# Altium integrated library Altium_WCAP-CSGP (rev22f).IntLib: 999 symbols (part 14 of 21)
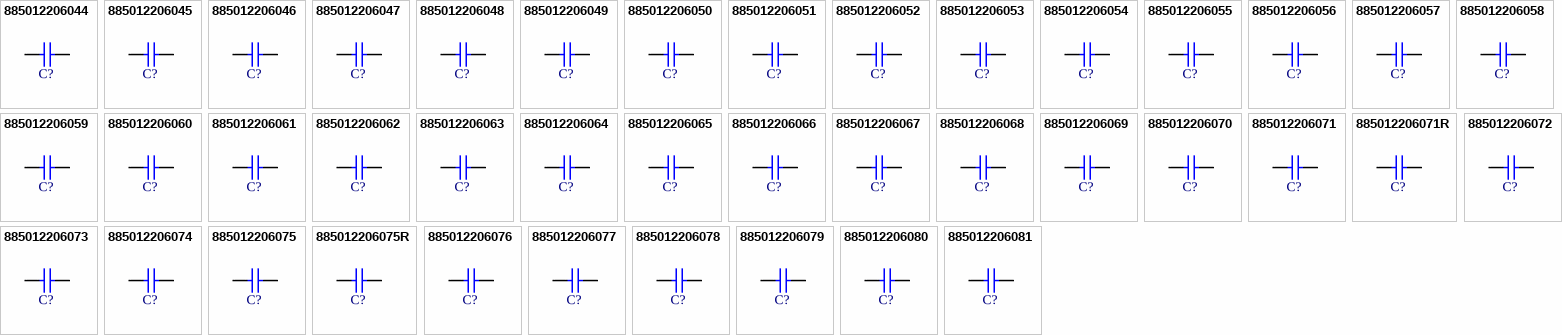
[diagram p37: symbols 885012206044 to 885012206081]

## 885012206075R
designator C?, comment 470nF  (value not drawn)
WCAP-CSGP Multilayer Ceramic Chip Capacitor, General Purpose, size 0603, X7R Class II, 470nF, 25VDC; Manufacturer Part Number: 885012206075R; Manufacturer: Wurth Elektronik; Case/Size Code: 0603; Capacitance Tolerance: +/-10%; Dissipation Factor: 10%; Insulation Resistance: 1.1GΩ; Rated Voltage (DC): 25V; Technical Reference: X7R0603474K025DFCT20000; Category: Multilayer Ceramic Chip Capacitors; Match Code: WCAP-CSGP; ComponentLink1Description: Website Link; ComponentLink1URL: https://www.we-online.com/redexpert/article/885012206075R?ad; ComponentLink2Description: Datasheet Link; ComponentLink2URL: https://www.we-online.com/redexpert/spec/885012206075R?ad; Mount: Surface Mount; Operating Temperature Max: 125°C; Operating Temperature Min: -55°C; Packaging: Tape and Reel; Length: 1.6mm; Width: 0.8mm; Height: 0.8mm; Capacitance: 470nF; Ceramic Type: X7R Class II
footprint WCAP-CSGP_0603_L1.6W0.8H0.8_Reflow
footprint WCAP-CSGP_0603_L1.6W0.8H0.8_Wave
simulation model 0603_885012206075R_470nF
pins: 1, 2

## 885012206076
designator C?, comment 1µF  (value not drawn)
WCAP-CSGP Multilayer Ceramic Chip Capacitor, General Purpose, size 0603, X7R, 1µF, 25VDC; Manufacturer Part Number: 885012206076; Manufacturer: Wurth Elektronik; Case/Size Code: 0603; Capacitance Tolerance: +/-10%; Dissipation Factor: 10%; Insulation Resistance: 0.5GΩ; Rated Voltage (DC): 25V; Technical Reference: X7R0603105K025DFCT10000; Category: Multilayer Ceramic Chip Capacitors; Match Code: WCAP-CSGP; ComponentLink1Description: Website Link; ComponentLink1URL: https://www.we-online.com/redexpert/article/885012206076?ad; ComponentLink2Description: Datasheet Link; ComponentLink2URL: https://www.we-online.com/redexpert/spec/885012206076?ad; Mount: Surface Mount; Operating Temperature Max: 125°C; Operating Temperature Min: -55°C; Packaging: Tape and Reel; Length: 1.6mm; Width: 0.8mm; Height: 0.8mm; Capacitance: 1µF; Ceramic Type: X7R
footprint WCAP-CSGP_0603_L1.6W0.8H0.8_Reflow
footprint WCAP-CSGP_0603_L1.6W0.8H0.8_Wave
simulation model 0603_885012206076_1uF
pins: 1, 2

## 885012206077
designator C?, comment 100pF  (value not drawn)
WCAP-CSGP Multilayer Ceramic Chip Capacitor, General Purpose, size 0603, X7R, 100pF, 50VDC; Manufacturer Part Number: 885012206077; Manufacturer: Wurth Elektronik; Case/Size Code: 0603; Capacitance Tolerance: +/-10%; Dissipation Factor: 2.5%; Insulation Resistance: 10GΩ; Rated Voltage (DC): 50V; Technical Reference: X7R0603101K050DFCT10000; Category: Multilayer Ceramic Chip Capacitors; Match Code: WCAP-CSGP; ComponentLink1Description: Website Link; ComponentLink1URL: https://www.we-online.com/redexpert/article/885012206077?ad; ComponentLink2Description: Datasheet Link; ComponentLink2URL: https://www.we-online.com/redexpert/spec/885012206077?ad; Mount: Surface Mount; Operating Temperature Max: 125°C; Operating Temperature Min: -55°C; Packaging: Tape and Reel; Length: 1.6mm; Width: 0.8mm; Height: 0.8mm; Capacitance: 100pF; Ceramic Type: X7R
footprint WCAP-CSGP_0603_L1.6W0.8H0.8_Reflow
footprint WCAP-CSGP_0603_L1.6W0.8H0.8_Wave
simulation model 0603_885012206077_100pF
pins: 1, 2

## 885012206078
designator C?, comment 150pF  (value not drawn)
WCAP-CSGP Multilayer Ceramic Chip Capacitor, General Purpose, size 0603, X7R, 150pF, 50VDC; Manufacturer Part Number: 885012206078; Manufacturer: Wurth Elektronik; Case/Size Code: 0603; Capacitance Tolerance: +/-10%; Dissipation Factor: 2.5%; Insulation Resistance: 10GΩ; Rated Voltage (DC): 50V; Technical Reference: X7R0603151K050DFCT10000; Category: Multilayer Ceramic Chip Capacitors; Match Code: WCAP-CSGP; ComponentLink1Description: Website Link; ComponentLink1URL: https://www.we-online.com/redexpert/article/885012206078?ad; ComponentLink2Description: Datasheet Link; ComponentLink2URL: https://www.we-online.com/redexpert/spec/885012206078?ad; Mount: Surface Mount; Operating Temperature Max: 125°C; Operating Temperature Min: -55°C; Packaging: Tape and Reel; Length: 1.6mm; Width: 0.8mm; Height: 0.8mm; Capacitance: 150pF; Ceramic Type: X7R
footprint WCAP-CSGP_0603_L1.6W0.8H0.8_Reflow
footprint WCAP-CSGP_0603_L1.6W0.8H0.8_Wave
simulation model 0603_885012206078_150pF
pins: 1, 2

## 885012206079
designator C?, comment 220pF  (value not drawn)
WCAP-CSGP Multilayer Ceramic Chip Capacitor, General Purpose, size 0603, X7R, 220pF, 50VDC; Manufacturer Part Number: 885012206079; Manufacturer: Wurth Elektronik; Case/Size Code: 0603; Capacitance Tolerance: +/-10%; Dissipation Factor: 2.5%; Insulation Resistance: 10GΩ; Rated Voltage (DC): 50V; Technical Reference: X7R0603221K050DFCT10000; Category: Multilayer Ceramic Chip Capacitors; Match Code: WCAP-CSGP; ComponentLink1Description: Website Link; ComponentLink1URL: https://www.we-online.com/redexpert/article/885012206079?ad; ComponentLink2Description: Datasheet Link; ComponentLink2URL: https://www.we-online.com/redexpert/spec/885012206079?ad; Mount: Surface Mount; Operating Temperature Max: 125°C; Operating Temperature Min: -55°C; Packaging: Tape and Reel; Length: 1.6mm; Width: 0.8mm; Height: 0.8mm; Capacitance: 220pF; Ceramic Type: X7R
footprint WCAP-CSGP_0603_L1.6W0.8H0.8_Reflow
footprint WCAP-CSGP_0603_L1.6W0.8H0.8_Wave
simulation model 0603_885012206079_220pF
pins: 1, 2

## 885012206080
designator C?, comment 330pF  (value not drawn)
WCAP-CSGP Multilayer Ceramic Chip Capacitor, General Purpose, size 0603, X7R, 330pF, 50VDC; Manufacturer Part Number: 885012206080; Manufacturer: Wurth Elektronik; Case/Size Code: 0603; Capacitance Tolerance: +/-10%; Dissipation Factor: 2.5%; Insulation Resistance: 10GΩ; Rated Voltage (DC): 50V; Technical Reference: X7R0603331K050DFCT10000; Category: Multilayer Ceramic Chip Capacitors; Match Code: WCAP-CSGP; ComponentLink1Description: Website Link; ComponentLink1URL: https://www.we-online.com/redexpert/article/885012206080?ad; ComponentLink2Description: Datasheet Link; ComponentLink2URL: https://www.we-online.com/redexpert/spec/885012206080?ad; Mount: Surface Mount; Operating Temperature Max: 125°C; Operating Temperature Min: -55°C; Packaging: Tape and Reel; Length: 1.6mm; Width: 0.8mm; Height: 0.8mm; Capacitance: 330pF; Ceramic Type: X7R
footprint WCAP-CSGP_0603_L1.6W0.8H0.8_Reflow
footprint WCAP-CSGP_0603_L1.6W0.8H0.8_Wave
simulation model 0603_885012206080_330pF
pins: 1, 2

## 885012206081
designator C?, comment 470pF  (value not drawn)
WCAP-CSGP Multilayer Ceramic Chip Capacitor, General Purpose, size 0603, X7R, 470pF, 50VDC; Manufacturer Part Number: 885012206081; Manufacturer: Wurth Elektronik; Case/Size Code: 0603; Capacitance Tolerance: +/-10%; Dissipation Factor: 2.5%; Insulation Resistance: 10GΩ; Rated Voltage (DC): 50V; Technical Reference: X7R0603471K050DFCT10000; Category: Multilayer Ceramic Chip Capacitors; Match Code: WCAP-CSGP; ComponentLink1Description: Website Link; ComponentLink1URL: https://www.we-online.com/redexpert/article/885012206081?ad; ComponentLink2Description: Datasheet Link; ComponentLink2URL: https://www.we-online.com/redexpert/spec/885012206081?ad; Mount: Surface Mount; Operating Temperature Max: 125°C; Operating Temperature Min: -55°C; Packaging: Tape and Reel; Length: 1.6mm; Width: 0.8mm; Height: 0.8mm; Capacitance: 470pF; Ceramic Type: X7R
footprint WCAP-CSGP_0603_L1.6W0.8H0.8_Reflow
footprint WCAP-CSGP_0603_L1.6W0.8H0.8_Wave
simulation model 0603_885012206081_470pF
pins: 1, 2

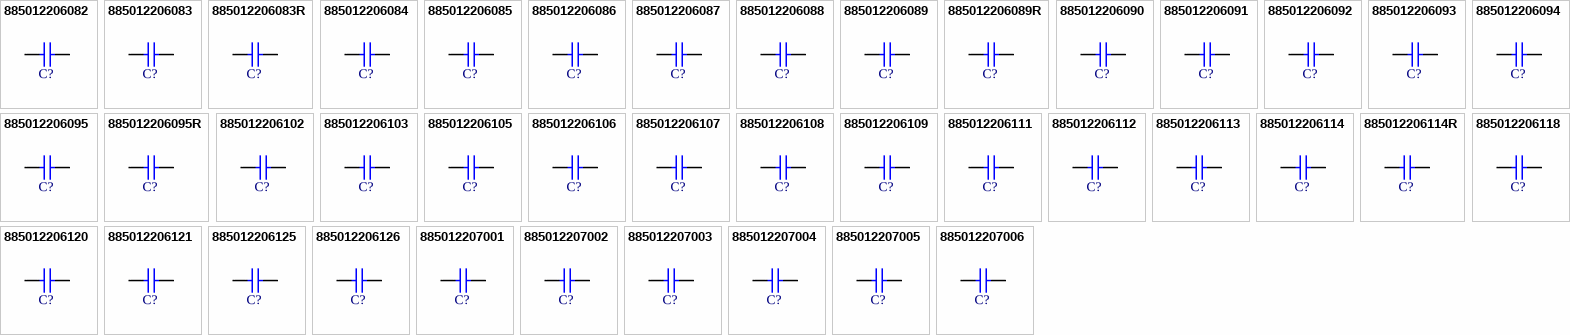
[diagram p16: symbols 885012206082 to 885012207006]

## 885012206082
designator C?, comment 680pF  (value not drawn)
WCAP-CSGP Multilayer Ceramic Chip Capacitor, General Purpose, size 0603, X7R, 680pF, 50VDC; Manufacturer Part Number: 885012206082; Manufacturer: Wurth Elektronik; Case/Size Code: 0603; Capacitance Tolerance: +/-10%; Dissipation Factor: 2.5%; Insulation Resistance: 10GΩ; Rated Voltage (DC): 50V; Technical Reference: X7R0603681K050DFCT10000; Category: Multilayer Ceramic Chip Capacitors; Match Code: WCAP-CSGP; ComponentLink1Description: Website Link; ComponentLink1URL: https://www.we-online.com/redexpert/article/885012206082?ad; ComponentLink2Description: Datasheet Link; ComponentLink2URL: https://www.we-online.com/redexpert/spec/885012206082?ad; Mount: Surface Mount; Operating Temperature Max: 125°C; Operating Temperature Min: -55°C; Packaging: Tape and Reel; Length: 1.6mm; Width: 0.8mm; Height: 0.8mm; Capacitance: 680pF; Ceramic Type: X7R
footprint WCAP-CSGP_0603_L1.6W0.8H0.8_Reflow
footprint WCAP-CSGP_0603_L1.6W0.8H0.8_Wave
simulation model 0603_885012206082_680pF
pins: 1, 2

## 885012206083
designator C?, comment 1nF  (value not drawn)
WCAP-CSGP Multilayer Ceramic Chip Capacitor, General Purpose, size 0603, X7R, 1nF, 50VDC; Manufacturer Part Number: 885012206083; Manufacturer: Wurth Elektronik; Case/Size Code: 0603; Capacitance Tolerance: +/-10%; Dissipation Factor: 2.5%; Insulation Resistance: 10GΩ; Rated Voltage (DC): 50V; Technical Reference: X7R0603102K050DFCT10000; Category: Multilayer Ceramic Chip Capacitors; Match Code: WCAP-CSGP; ComponentLink1Description: Website Link; ComponentLink1URL: https://www.we-online.com/redexpert/article/885012206083?ad; ComponentLink2Description: Datasheet Link; ComponentLink2URL: https://www.we-online.com/redexpert/spec/885012206083?ad; Mount: Surface Mount; Operating Temperature Max: 125°C; Operating Temperature Min: -55°C; Packaging: Tape and Reel; Length: 1.6mm; Width: 0.8mm; Height: 0.8mm; Capacitance: 1nF; Ceramic Type: X7R
footprint WCAP-CSGP_0603_L1.6W0.8H0.8_Reflow
footprint WCAP-CSGP_0603_L1.6W0.8H0.8_Wave
simulation model 0603_885012206083_1nF
pins: 1, 2

## 885012206083R
designator C?, comment 1nF  (value not drawn)
WCAP-CSGP Multilayer Ceramic Chip Capacitor, General Purpose, size 0603, X7R, 1nF, 50VDC; Manufacturer Part Number: 885012206083R; Manufacturer: Wurth Elektronik; Case/Size Code: 0603; Capacitance Tolerance: +/-10%; Dissipation Factor: 2.5%; Insulation Resistance: 10GΩ; Rated Voltage (DC): 50V; Technical Reference: X7R0603102K050DFCT20000; Category: Multilayer Ceramic Chip Capacitors; Match Code: WCAP-CSGP; ComponentLink1Description: Website Link; ComponentLink1URL: https://www.we-online.com/redexpert/article/885012206083R?ad; ComponentLink2Description: Datasheet Link; ComponentLink2URL: https://www.we-online.com/redexpert/spec/885012206083R?ad; Mount: Surface Mount; Operating Temperature Max: 125°C; Operating Temperature Min: -55°C; Packaging: Tape and Reel; Length: 1.6mm; Width: 0.8mm; Height: 0.8mm; Capacitance: 1nF; Ceramic Type: X7R
footprint WCAP-CSGP_0603_L1.6W0.8H0.8_Reflow
footprint WCAP-CSGP_0603_L1.6W0.8H0.8_Wave
simulation model 0603_885012206083R_1nF
pins: 1, 2

## 885012206084
designator C?, comment 1.5nF  (value not drawn)
WCAP-CSGP Multilayer Ceramic Chip Capacitor, General Purpose, size 0603, X7R, 1.5nF, 50VDC; Manufacturer Part Number: 885012206084; Manufacturer: Wurth Elektronik; Case/Size Code: 0603; Capacitance Tolerance: +/-10%; Dissipation Factor: 2.5%; Insulation Resistance: 10GΩ; Rated Voltage (DC): 50V; Technical Reference: X7R0603152K050DFCT10000; Category: Multilayer Ceramic Chip Capacitors; Match Code: WCAP-CSGP; ComponentLink1Description: Website Link; ComponentLink1URL: https://www.we-online.com/redexpert/article/885012206084?ad; ComponentLink2Description: Datasheet Link; ComponentLink2URL: https://www.we-online.com/redexpert/spec/885012206084?ad; Mount: Surface Mount; Operating Temperature Max: 125°C; Operating Temperature Min: -55°C; Packaging: Tape and Reel; Length: 1.6mm; Width: 0.8mm; Height: 0.8mm; Capacitance: 1.5nF; Ceramic Type: X7R
footprint WCAP-CSGP_0603_L1.6W0.8H0.8_Reflow
footprint WCAP-CSGP_0603_L1.6W0.8H0.8_Wave
simulation model 0603_885012206084_1.5nF
pins: 1, 2

## 885012206085
designator C?, comment 2.2nF  (value not drawn)
WCAP-CSGP Multilayer Ceramic Chip Capacitor, General Purpose, size 0603, X7R, 2.2nF, 50VDC; Manufacturer Part Number: 885012206085; Manufacturer: Wurth Elektronik; Case/Size Code: 0603; Capacitance Tolerance: +/-10%; Dissipation Factor: 2.5%; Insulation Resistance: 10GΩ; Rated Voltage (DC): 50V; Technical Reference: X7R0603222K050DFCT10000; Category: Multilayer Ceramic Chip Capacitors; Match Code: WCAP-CSGP; ComponentLink1Description: Website Link; ComponentLink1URL: https://www.we-online.com/redexpert/article/885012206085?ad; ComponentLink2Description: Datasheet Link; ComponentLink2URL: https://www.we-online.com/redexpert/spec/885012206085?ad; Mount: Surface Mount; Operating Temperature Max: 125°C; Operating Temperature Min: -55°C; Packaging: Tape and Reel; Length: 1.6mm; Width: 0.8mm; Height: 0.8mm; Capacitance: 2.2nF; Ceramic Type: X7R
footprint WCAP-CSGP_0603_L1.6W0.8H0.8_Reflow
footprint WCAP-CSGP_0603_L1.6W0.8H0.8_Wave
simulation model 0603_885012206085_2.2nF
pins: 1, 2

## 885012206086
designator C?, comment 3.3nF  (value not drawn)
WCAP-CSGP Multilayer Ceramic Chip Capacitor, General Purpose, size 0603, X7R, 3.3nF, 50VDC; Manufacturer Part Number: 885012206086; Manufacturer: Wurth Elektronik; Case/Size Code: 0603; Capacitance Tolerance: +/-10%; Dissipation Factor: 2.5%; Insulation Resistance: 10GΩ; Rated Voltage (DC): 50V; Technical Reference: X7R0603332K050DFCT10000; Category: Multilayer Ceramic Chip Capacitors; Match Code: WCAP-CSGP; ComponentLink1Description: Website Link; ComponentLink1URL: https://www.we-online.com/redexpert/article/885012206086?ad; ComponentLink2Description: Datasheet Link; ComponentLink2URL: https://www.we-online.com/redexpert/spec/885012206086?ad; Mount: Surface Mount; Operating Temperature Max: 125°C; Operating Temperature Min: -55°C; Packaging: Tape and Reel; Length: 1.6mm; Width: 0.8mm; Height: 0.8mm; Capacitance: 3.3nF; Ceramic Type: X7R
footprint WCAP-CSGP_0603_L1.6W0.8H0.8_Reflow
footprint WCAP-CSGP_0603_L1.6W0.8H0.8_Wave
simulation model 0603_885012206086_3.3nF
pins: 1, 2

## 885012206087
designator C?, comment 4.7nF  (value not drawn)
WCAP-CSGP Multilayer Ceramic Chip Capacitor, General Purpose, size 0603, X7R, 4.7nF, 50VDC; Manufacturer Part Number: 885012206087; Manufacturer: Wurth Elektronik; Case/Size Code: 0603; Capacitance Tolerance: +/-10%; Dissipation Factor: 2.5%; Insulation Resistance: 10GΩ; Rated Voltage (DC): 50V; Technical Reference: X7R0603472K050DFCT10000; Category: Multilayer Ceramic Chip Capacitors; Match Code: WCAP-CSGP; ComponentLink1Description: Website Link; ComponentLink1URL: https://www.we-online.com/redexpert/article/885012206087?ad; ComponentLink2Description: Datasheet Link; ComponentLink2URL: https://www.we-online.com/redexpert/spec/885012206087?ad; Mount: Surface Mount; Operating Temperature Max: 125°C; Operating Temperature Min: -55°C; Packaging: Tape and Reel; Length: 1.6mm; Width: 0.8mm; Height: 0.8mm; Capacitance: 4.7nF; Ceramic Type: X7R
footprint WCAP-CSGP_0603_L1.6W0.8H0.8_Reflow
footprint WCAP-CSGP_0603_L1.6W0.8H0.8_Wave
simulation model 0603_885012206087_4.7nF
pins: 1, 2

## 885012206088
designator C?, comment 6.8nF  (value not drawn)
WCAP-CSGP Multilayer Ceramic Chip Capacitor, General Purpose, size 0603, X7R, 6.8nF, 50VDC; Manufacturer Part Number: 885012206088; Manufacturer: Wurth Elektronik; Case/Size Code: 0603; Capacitance Tolerance: +/-10%; Dissipation Factor: 2.5%; Insulation Resistance: 10GΩ; Rated Voltage (DC): 50V; Technical Reference: X7R0603682K050DFCT10000; Category: Multilayer Ceramic Chip Capacitors; Match Code: WCAP-CSGP; ComponentLink1Description: Website Link; ComponentLink1URL: https://www.we-online.com/redexpert/article/885012206088?ad; ComponentLink2Description: Datasheet Link; ComponentLink2URL: https://www.we-online.com/redexpert/spec/885012206088?ad; Mount: Surface Mount; Operating Temperature Max: 125°C; Operating Temperature Min: -55°C; Packaging: Tape and Reel; Length: 1.6mm; Width: 0.8mm; Height: 0.8mm; Capacitance: 6.8nF; Ceramic Type: X7R
footprint WCAP-CSGP_0603_L1.6W0.8H0.8_Reflow
footprint WCAP-CSGP_0603_L1.6W0.8H0.8_Wave
simulation model 0603_885012206088_6.8nF
pins: 1, 2

## 885012206089
designator C?, comment 10nF  (value not drawn)
WCAP-CSGP Multilayer Ceramic Chip Capacitor, General Purpose, size 0603, X7R, 10nF, 50VDC; Manufacturer Part Number: 885012206089; Manufacturer: Wurth Elektronik; Case/Size Code: 0603; Capacitance Tolerance: +/-10%; Dissipation Factor: 2.5%; Insulation Resistance: 10GΩ; Rated Voltage (DC): 50V; Technical Reference: X7R0603103K050DFCT10000; Category: Multilayer Ceramic Chip Capacitors; Match Code: WCAP-CSGP; ComponentLink1Description: Website Link; ComponentLink1URL: https://www.we-online.com/redexpert/article/885012206089?ad; ComponentLink2Description: Datasheet Link; ComponentLink2URL: https://www.we-online.com/redexpert/spec/885012206089?ad; Mount: Surface Mount; Operating Temperature Max: 125°C; Operating Temperature Min: -55°C; Packaging: Tape and Reel; Length: 1.6mm; Width: 0.8mm; Height: 0.8mm; Capacitance: 10nF; Ceramic Type: X7R
footprint WCAP-CSGP_0603_L1.6W0.8H0.8_Reflow
footprint WCAP-CSGP_0603_L1.6W0.8H0.8_Wave
simulation model 0603_885012206089_10nF
pins: 1, 2

## 885012206089R
designator C?, comment 10nF  (value not drawn)
WCAP-CSGP Multilayer Ceramic Chip Capacitor, General Purpose, size 0603, X7R, 10nF, 50VDC; Manufacturer Part Number: 885012206089R; Manufacturer: Wurth Elektronik; Case/Size Code: 0603; Capacitance Tolerance: +/10%; Dissipation Factor: 2.5%; Insulation Resistance: 10GΩ; Rated Voltage (DC): 50V; Technical Reference: X7R0603103K050DFCT20000; Category: Multilayer Ceramic Chip Capacitors; Match Code: WCAP-CSGP; ComponentLink1Description: Website Link; ComponentLink1URL: https://www.we-online.com/redexpert/article/885012206089R?ad; ComponentLink2Description: Datasheet Link; ComponentLink2URL: https://www.we-online.com/redexpert/spec/885012206089R?ad; Mount: Surface Mount; Operating Temperature Max: 125°C; Operating Temperature Min: -55°C; Packaging: Tape and Reel; Length: 1.6mm; Width: 0.8mm; Height: 0.8mm; Capacitance: 10nF; Ceramic Type: X7R
footprint WCAP-CSGP_0603_L1.6W0.8H0.8_Reflow
footprint WCAP-CSGP_0603_L1.6W0.8H0.8_Wave
simulation model 0603_885012206089R_10nF
pins: 1, 2

## 885012206090
designator C?, comment 15nF  (value not drawn)
WCAP-CSGP Multilayer Ceramic Chip Capacitor, General Purpose, size 0603, X7R, 15nF, 50VDC; Manufacturer Part Number: 885012206090; Manufacturer: Wurth Elektronik; Case/Size Code: 0603; Capacitance Tolerance: +/-10%; Dissipation Factor: 2.5%; Insulation Resistance: 10GΩ; Rated Voltage (DC): 50V; Technical Reference: X7R0603153K050DFCT10000; Category: Multilayer Ceramic Chip Capacitors; Match Code: WCAP-CSGP; ComponentLink1Description: Website Link; ComponentLink1URL: https://www.we-online.com/redexpert/article/885012206090?ad; ComponentLink2Description: Datasheet Link; ComponentLink2URL: https://www.we-online.com/redexpert/spec/885012206090?ad; Mount: Surface Mount; Operating Temperature Max: 125°C; Operating Temperature Min: -55°C; Packaging: Tape and Reel; Length: 1.6mm; Width: 0.8mm; Height: 0.8mm; Capacitance: 15nF; Ceramic Type: X7R
footprint WCAP-CSGP_0603_L1.6W0.8H0.8_Reflow
footprint WCAP-CSGP_0603_L1.6W0.8H0.8_Wave
simulation model 0603_885012206090_15nF
pins: 1, 2

## 885012206091
designator C?, comment 22nF  (value not drawn)
WCAP-CSGP Multilayer Ceramic Chip Capacitor, General Purpose, size 0603, X7R, 22nF, 50VDC; Manufacturer Part Number: 885012206091; Manufacturer: Wurth Elektronik; Case/Size Code: 0603; Capacitance Tolerance: +/-10%; Dissipation Factor: 2.5%; Insulation Resistance: 10GΩ; Rated Voltage (DC): 50V; Technical Reference: X7R0603223K050DFCT10000; Category: Multilayer Ceramic Chip Capacitors; Match Code: WCAP-CSGP; ComponentLink1Description: Website Link; ComponentLink1URL: https://www.we-online.com/redexpert/article/885012206091?ad; ComponentLink2Description: Datasheet Link; ComponentLink2URL: https://www.we-online.com/redexpert/spec/885012206091?ad; Mount: Surface Mount; Operating Temperature Max: 125°C; Operating Temperature Min: -55°C; Packaging: Tape and Reel; Length: 1.6mm; Width: 0.8mm; Height: 0.8mm; Capacitance: 22nF; Ceramic Type: X7R
footprint WCAP-CSGP_0603_L1.6W0.8H0.8_Reflow
footprint WCAP-CSGP_0603_L1.6W0.8H0.8_Wave
simulation model 0603_885012206091_22nF
pins: 1, 2

## 885012206092
designator C?, comment 33nF  (value not drawn)
WCAP-CSGP Multilayer Ceramic Chip Capacitor, General Purpose, size 0603, X7R, 33nF, 50VDC; Manufacturer Part Number: 885012206092; Manufacturer: Wurth Elektronik; Case/Size Code: 0603; Capacitance Tolerance: +/-10%; Dissipation Factor: 2.5%; Insulation Resistance: 10GΩ; Rated Voltage (DC): 50V; Technical Reference: X7R0603333K050DFCT10000; Category: Multilayer Ceramic Chip Capacitors; Match Code: WCAP-CSGP; ComponentLink1Description: Website Link; ComponentLink1URL: https://www.we-online.com/redexpert/article/885012206092?ad; ComponentLink2Description: Datasheet Link; ComponentLink2URL: https://www.we-online.com/redexpert/spec/885012206092?ad; Mount: Surface Mount; Operating Temperature Max: 125°C; Operating Temperature Min: -55°C; Packaging: Tape and Reel; Length: 1.6mm; Width: 0.8mm; Height: 0.8mm; Capacitance: 33nF; Ceramic Type: X7R
footprint WCAP-CSGP_0603_L1.6W0.8H0.8_Reflow
footprint WCAP-CSGP_0603_L1.6W0.8H0.8_Wave
simulation model 0603_885012206092_33nF
pins: 1, 2

## 885012206093
designator C?, comment 47nF  (value not drawn)
WCAP-CSGP Multilayer Ceramic Chip Capacitor, General Purpose, size 0603, X7R, 47nF, 50VDC; Manufacturer Part Number: 885012206093; Manufacturer: Wurth Elektronik; Case/Size Code: 0603; Capacitance Tolerance: +/-10%; Dissipation Factor: 3%; Insulation Resistance: 10GΩ; Rated Voltage (DC): 50V; Technical Reference: X7R0603473K050DFCT10000; Category: Multilayer Ceramic Chip Capacitors; Match Code: WCAP-CSGP; ComponentLink1Description: Website Link; ComponentLink1URL: https://www.we-online.com/redexpert/article/885012206093?ad; ComponentLink2Description: Datasheet Link; ComponentLink2URL: https://www.we-online.com/redexpert/spec/885012206093?ad; Mount: Surface Mount; Operating Temperature Max: 125°C; Operating Temperature Min: -55°C; Packaging: Tape and Reel; Length: 1.6mm; Width: 0.8mm; Height: 0.8mm; Capacitance: 47nF; Ceramic Type: X7R
footprint WCAP-CSGP_0603_L1.6W0.8H0.8_Reflow
footprint WCAP-CSGP_0603_L1.6W0.8H0.8_Wave
simulation model 0603_885012206093_47nF
pins: 1, 2

## 885012206094
designator C?, comment 68nF  (value not drawn)
WCAP-CSGP Multilayer Ceramic Chip Capacitor, General Purpose, size 0603, X7R, 68nF, 50VDC; Manufacturer Part Number: 885012206094; Manufacturer: Wurth Elektronik; Case/Size Code: 0603; Capacitance Tolerance: +/-10%; Dissipation Factor: 3%; Insulation Resistance: 7.4GΩ; Rated Voltage (DC): 50V; Technical Reference: X7R0603683K050DFCT10000; Category: Multilayer Ceramic Chip Capacitors; Match Code: WCAP-CSGP; ComponentLink1Description: Website Link; ComponentLink1URL: https://www.we-online.com/redexpert/article/885012206094?ad; ComponentLink2Description: Datasheet Link; ComponentLink2URL: https://www.we-online.com/redexpert/spec/885012206094?ad; Mount: Surface Mount; Operating Temperature Max: 125°C; Operating Temperature Min: -55°C; Packaging: Tape and Reel; Length: 1.6mm; Width: 0.8mm; Height: 0.8mm; Capacitance: 68nF; Ceramic Type: X7R
footprint WCAP-CSGP_0603_L1.6W0.8H0.8_Reflow
footprint WCAP-CSGP_0603_L1.6W0.8H0.8_Wave
simulation model 0603_885012206094_68nF
pins: 1, 2

## 885012206095
designator C?, comment 100nF  (value not drawn)
WCAP-CSGP Multilayer Ceramic Chip Capacitor, General Purpose, size 0603, X7R, 100nF, 50VDC; Manufacturer Part Number: 885012206095; Manufacturer: Wurth Elektronik; Case/Size Code: 0603; Capacitance Tolerance: +/-10%; Dissipation Factor: 3%; Insulation Resistance: 5GΩ; Rated Voltage (DC): 50V; Technical Reference: X7R0603104K050DFCT10000; Category: Multilayer Ceramic Chip Capacitors; Match Code: WCAP-CSGP; ComponentLink1Description: Website Link; ComponentLink1URL: https://www.we-online.com/redexpert/article/885012206095?ad; ComponentLink2Description: Datasheet Link; ComponentLink2URL: https://www.we-online.com/redexpert/spec/885012206095?ad; Mount: Surface Mount; Operating Temperature Max: 125°C; Operating Temperature Min: -55°C; Packaging: Tape and Reel; Length: 1.6mm; Width: 0.8mm; Height: 0.8mm; Capacitance: 100nF; Ceramic Type: X7R
footprint WCAP-CSGP_0603_L1.6W0.8H0.8_Reflow
footprint WCAP-CSGP_0603_L1.6W0.8H0.8_Wave
simulation model 0603_885012206095_100nF
pins: 1, 2

## 885012206095R
designator C?, comment 100nF  (value not drawn)
WCAP-CSGP Multilayer Ceramic Chip Capacitor, General Purpose, size 0603, X7R, 100nF, 50VDC; Manufacturer Part Number: 885012206095R; Manufacturer: Wurth Elektronik; Case/Size Code: 0603; Capacitance Tolerance: +/-10%; Dissipation Factor: 3%; Insulation Resistance: 5GΩ; Rated Voltage (DC): 50V; Technical Reference: X7R0603104K050DFCT20000; Category: Multilayer Ceramic Chip Capacitors; Match Code: WCAP-CSGP; ComponentLink1Description: Website Link; ComponentLink1URL: https://www.we-online.com/redexpert/article/885012206095R?ad; ComponentLink2Description: Datasheet Link; ComponentLink2URL: https://www.we-online.com/redexpert/spec/885012206095R?ad; Mount: Surface Mount; Operating Temperature Max: 125°C; Operating Temperature Min: -55°C; Packaging: Tape and Reel; Length: 1.6mm; Width: 0.8mm; Height: 0.8mm; Capacitance: 100nF; Ceramic Type: X7R
footprint WCAP-CSGP_0603_L1.6W0.8H0.8_Reflow
footprint WCAP-CSGP_0603_L1.6W0.8H0.8_Wave
simulation model 0603_885012206095R_100nF
pins: 1, 2

## 885012206102
designator C?, comment 100pF  (value not drawn)
WCAP-CSGP Multilayer Ceramic Chip Capacitor, General Purpose, size 0603, X7R, 100pF, 100VDC; Manufacturer Part Number: 885012206102; Manufacturer: Wurth Elektronik; Case/Size Code: 0603; Capacitance Tolerance: +/-10%; Dissipation Factor: 2.5%; Insulation Resistance: 10GΩ; Rated Voltage (DC): 100V; Technical Reference: X7R0603101K100DFCT10000; Category: Multilayer Ceramic Chip Capacitors; Match Code: WCAP-CSGP; ComponentLink1Description: Website Link; ComponentLink1URL: https://www.we-online.com/redexpert/article/885012206102?ad; ComponentLink2Description: Datasheet Link; ComponentLink2URL: https://www.we-online.com/redexpert/spec/885012206102?ad; Mount: Surface Mount; Operating Temperature Max: 125°C; Operating Temperature Min: -55°C; Packaging: Tape and Reel; Length: 1.6mm; Width: 0.8mm; Height: 0.8mm; Capacitance: 100pF; Ceramic Type: X7R
footprint WCAP-CSGP_0603_L1.6W0.8H0.8_Reflow
footprint WCAP-CSGP_0603_L1.6W0.8H0.8_Wave
simulation model 0603_885012206102_100pF
pins: 1, 2

## 885012206103
designator C?, comment 150pF  (value not drawn)
WCAP-CSGP Multilayer Ceramic Chip Capacitor, General Purpose, size 0603, X7R, 150pF, 100VDC; Manufacturer Part Number: 885012206103; Manufacturer: Wurth Elektronik; Case/Size Code: 0603; Capacitance Tolerance: +/-10%; Dissipation Factor: 2.5%; Insulation Resistance: 10GΩ; Rated Voltage (DC): 100V; Technical Reference: X7R0603151K100DFCT10000; Category: Multilayer Ceramic Chip Capacitors; Match Code: WCAP-CSGP; ComponentLink1Description: Website Link; ComponentLink1URL: https://www.we-online.com/redexpert/article/885012206103?ad; ComponentLink2Description: Datasheet Link; ComponentLink2URL: https://www.we-online.com/redexpert/spec/885012206103?ad; Mount: Surface Mount; Operating Temperature Max: 125°C; Operating Temperature Min: -55°C; Packaging: Tape and Reel; Length: 1.6mm; Width: 0.8mm; Height: 0.8mm; Capacitance: 150pF; Ceramic Type: X7R
footprint WCAP-CSGP_0603_L1.6W0.8H0.8_Reflow
footprint WCAP-CSGP_0603_L1.6W0.8H0.8_Wave
simulation model 0603_885012206103_150pF
pins: 1, 2

## 885012206105
designator C?, comment 330pF  (value not drawn)
WCAP-CSGP Multilayer Ceramic Chip Capacitor, General Purpose, size 0603, X7R, 330pF, 100VDC; Manufacturer Part Number: 885012206105; Manufacturer: Wurth Elektronik; Case/Size Code: 0603; Capacitance Tolerance: +/-10%; Dissipation Factor: 2.5%; Insulation Resistance: 10GΩ; Rated Voltage (DC): 100V; Technical Reference: X7R0603331K100DFCT10000; Category: Multilayer Ceramic Chip Capacitors; Match Code: WCAP-CSGP; ComponentLink1Description: Website Link; ComponentLink1URL: https://www.we-online.com/redexpert/article/885012206105?ad; ComponentLink2Description: Datasheet Link; ComponentLink2URL: https://www.we-online.com/redexpert/spec/885012206105?ad; Mount: Surface Mount; Operating Temperature Max: 125°C; Operating Temperature Min: -55°C; Packaging: Tape and Reel; Length: 1.6mm; Width: 0.8mm; Height: 0.8mm; Capacitance: 330pF; Ceramic Type: X7R
footprint WCAP-CSGP_0603_L1.6W0.8H0.8_Reflow
footprint WCAP-CSGP_0603_L1.6W0.8H0.8_Wave
simulation model 0603_885012206105_330pF
pins: 1, 2

## 885012206106
designator C?, comment 470pF  (value not drawn)
WCAP-CSGP Multilayer Ceramic Chip Capacitor, General Purpose, size 0603, X7R, 470pF, 100VDC; Manufacturer Part Number: 885012206106; Manufacturer: Wurth Elektronik; Case/Size Code: 0603; Capacitance Tolerance: +/-10%; Dissipation Factor: 2.5%; Insulation Resistance: 10GΩ; Rated Voltage (DC): 100V; Technical Reference: X7R0603471K100DFCT10000; Category: Multilayer Ceramic Chip Capacitors; Match Code: WCAP-CSGP; ComponentLink1Description: Website Link; ComponentLink1URL: https://www.we-online.com/redexpert/article/885012206106?ad; ComponentLink2Description: Datasheet Link; ComponentLink2URL: https://www.we-online.com/redexpert/spec/885012206106?ad; Mount: Surface Mount; Operating Temperature Max: 125°C; Operating Temperature Min: -55°C; Packaging: Tape and Reel; Length: 1.6mm; Width: 0.8mm; Height: 0.8mm; Capacitance: 470pF; Ceramic Type: X7R
footprint WCAP-CSGP_0603_L1.6W0.8H0.8_Reflow
footprint WCAP-CSGP_0603_L1.6W0.8H0.8_Wave
simulation model 0603_885012206106_470pF
pins: 1, 2

## 885012206107
designator C?, comment 680pF  (value not drawn)
WCAP-CSGP Multilayer Ceramic Chip Capacitor, General Purpose, size 0603, X7R, 680pF, 100VDC; Manufacturer Part Number: 885012206107; Manufacturer: Wurth Elektronik; Case/Size Code: 0603; Capacitance Tolerance: +/-10%; Dissipation Factor: 2.5%; Insulation Resistance: 10GΩ; Rated Voltage (DC): 100V; Technical Reference: X7R0603681K100DFCT10000; Category: Multilayer Ceramic Chip Capacitors; Match Code: WCAP-CSGP; ComponentLink1Description: Website Link; ComponentLink1URL: https://www.we-online.com/redexpert/article/885012206107?ad; ComponentLink2Description: Datasheet Link; ComponentLink2URL: https://www.we-online.com/redexpert/spec/885012206107?ad; Mount: Surface Mount; Operating Temperature Max: 125°C; Operating Temperature Min: -55°C; Packaging: Tape and Reel; Length: 1.6mm; Width: 0.8mm; Height: 0.8mm; Capacitance: 680pF; Ceramic Type: X7R
footprint WCAP-CSGP_0603_L1.6W0.8H0.8_Reflow
footprint WCAP-CSGP_0603_L1.6W0.8H0.8_Wave
simulation model 0603_885012206107_680pF
pins: 1, 2

## 885012206108
designator C?, comment 1nF  (value not drawn)
WCAP-CSGP Multilayer Ceramic Chip Capacitor, General Purpose, size 0603, X7R, 1nF, 100VDC; Manufacturer Part Number: 885012206108; Manufacturer: Wurth Elektronik; Case/Size Code: 0603; Capacitance Tolerance: +/-10%; Dissipation Factor: 2.5%; Insulation Resistance: 10GΩ; Rated Voltage (DC): 100V; Technical Reference: X7R0603102K100DFCT10000; Category: Multilayer Ceramic Chip Capacitors; Match Code: WCAP-CSGP; ComponentLink1Description: Website Link; ComponentLink1URL: https://www.we-online.com/redexpert/article/885012206108?ad; ComponentLink2Description: Datasheet Link; ComponentLink2URL: https://www.we-online.com/redexpert/spec/885012206108?ad; Mount: Surface Mount; Operating Temperature Max: 125°C; Operating Temperature Min: -55°C; Packaging: Tape and Reel; Length: 1.6mm; Width: 0.8mm; Height: 0.8mm; Capacitance: 1nF; Ceramic Type: X7R
footprint WCAP-CSGP_0603_L1.6W0.8H0.8_Reflow
footprint WCAP-CSGP_0603_L1.6W0.8H0.8_Wave
simulation model 0603_885012206108_1nF
pins: 1, 2

## 885012206109
designator C?, comment 1.5nF  (value not drawn)
WCAP-CSGP Multilayer Ceramic Chip Capacitor, General Purpose, size 0603, X7R, 1.5nF, 100VDC; Manufacturer Part Number: 885012206109; Manufacturer: Wurth Elektronik; Case/Size Code: 0603; Capacitance Tolerance: +/-10%; Dissipation Factor: 2.5%; Insulation Resistance: 10GΩ; Rated Voltage (DC): 100V; Technical Reference: X7R0603152K100DFCT10000; Category: Multilayer Ceramic Chip Capacitors; Match Code: WCAP-CSGP; ComponentLink1Description: Website Link; ComponentLink1URL: https://www.we-online.com/redexpert/article/885012206109?ad; ComponentLink2Description: Datasheet Link; ComponentLink2URL: https://www.we-online.com/redexpert/spec/885012206109?ad; Mount: Surface Mount; Operating Temperature Max: 125°C; Operating Temperature Min: -55°C; Packaging: Tape and Reel; Length: 1.6mm; Width: 0.8mm; Height: 0.8mm; Capacitance: 1.5nF; Ceramic Type: X7R
footprint WCAP-CSGP_0603_L1.6W0.8H0.8_Reflow
footprint WCAP-CSGP_0603_L1.6W0.8H0.8_Wave
simulation model 0603_885012206109_1.5nF
pins: 1, 2

## 885012206111
designator C?, comment 3.3nF  (value not drawn)
WCAP-CSGP Multilayer Ceramic Chip Capacitor, General Purpose, size 0603, X7R, 3.3nF, 100VDC; Manufacturer Part Number: 885012206111; Manufacturer: Wurth Elektronik; Case/Size Code: 0603; Capacitance Tolerance: +/-10%; Dissipation Factor: 2.5%; Insulation Resistance: 10GΩ; Rated Voltage (DC): 100V; Technical Reference: X7R0603332K100DFCT10000; Category: Multilayer Ceramic Chip Capacitors; Match Code: WCAP-CSGP; ComponentLink1Description: Website Link; ComponentLink1URL: https://www.we-online.com/redexpert/article/885012206111?ad; ComponentLink2Description: Datasheet Link; ComponentLink2URL: https://www.we-online.com/redexpert/spec/885012206111?ad; Mount: Surface Mount; Operating Temperature Max: 125°C; Operating Temperature Min: -55°C; Packaging: Tape and Reel; Length: 1.6mm; Width: 0.8mm; Height: 0.8mm; Capacitance: 3.3nF; Ceramic Type: X7R
footprint WCAP-CSGP_0603_L1.6W0.8H0.8_Reflow
footprint WCAP-CSGP_0603_L1.6W0.8H0.8_Wave
simulation model 0603_885012206111_3.3nF
pins: 1, 2

## 885012206112
designator C?, comment 4.7nF  (value not drawn)
WCAP-CSGP Multilayer Ceramic Chip Capacitor, General Purpose, size 0603, X7R, 4.7nF, 100VDC; Manufacturer Part Number: 885012206112; Manufacturer: Wurth Elektronik; Case/Size Code: 0603; Capacitance Tolerance: +/-10%; Dissipation Factor: 2.5%; Insulation Resistance: 10GΩ; Rated Voltage (DC): 100V; Technical Reference: X7R0603472K100DFCT10000; Category: Multilayer Ceramic Chip Capacitors; Match Code: WCAP-CSGP; ComponentLink1Description: Website Link; ComponentLink1URL: https://www.we-online.com/redexpert/article/885012206112?ad; ComponentLink2Description: Datasheet Link; ComponentLink2URL: https://www.we-online.com/redexpert/spec/885012206112?ad; Mount: Surface Mount; Operating Temperature Max: 125°C; Operating Temperature Min: -55°C; Packaging: Tape and Reel; Length: 1.6mm; Width: 0.8mm; Height: 0.8mm; Capacitance: 4.7nF; Ceramic Type: X7R
footprint WCAP-CSGP_0603_L1.6W0.8H0.8_Reflow
footprint WCAP-CSGP_0603_L1.6W0.8H0.8_Wave
simulation model 0603_885012206112_4.7nF
pins: 1, 2

## 885012206113
designator C?, comment 6.8nF  (value not drawn)
WCAP-CSGP Multilayer Ceramic Chip Capacitor, General Purpose, size 0603, X7R, 6.8nF, 100VDC; Manufacturer Part Number: 885012206113; Manufacturer: Wurth Elektronik; Case/Size Code: 0603; Capacitance Tolerance: +/-10%; Dissipation Factor: 2.5%; Insulation Resistance: 10GΩ; Rated Voltage (DC): 100V; Technical Reference: X7R0603682K100DFCT10000; Category: Multilayer Ceramic Chip Capacitors; Match Code: WCAP-CSGP; ComponentLink1Description: Website Link; ComponentLink1URL: https://www.we-online.com/redexpert/article/885012206113?ad; ComponentLink2Description: Datasheet Link; ComponentLink2URL: https://www.we-online.com/redexpert/spec/885012206113?ad; Mount: Surface Mount; Operating Temperature Max: 125°C; Operating Temperature Min: -55°C; Packaging: Tape and Reel; Length: 1.6mm; Width: 0.8mm; Height: 0.8mm; Capacitance: 6.8nF; Ceramic Type: X7R
footprint WCAP-CSGP_0603_L1.6W0.8H0.8_Reflow
footprint WCAP-CSGP_0603_L1.6W0.8H0.8_Wave
simulation model 0603_885012206113_6.8nF
pins: 1, 2

## 885012206114
designator C?, comment 10nF  (value not drawn)
WCAP-CSGP Multilayer Ceramic Chip Capacitor, General Purpose, size 0603, X7R, 10nF, 100VDC; Manufacturer Part Number: 885012206114; Manufacturer: Wurth Elektronik; Case/Size Code: 0603; Capacitance Tolerance: +/-10%; Dissipation Factor: 2.5%; Insulation Resistance: 10GΩ; Rated Voltage (DC): 100V; Technical Reference: X7R0603103K100DFCT10000; Category: Multilayer Ceramic Chip Capacitors; Match Code: WCAP-CSGP; ComponentLink1Description: Website Link; ComponentLink1URL: https://www.we-online.com/redexpert/article/885012206114?ad; ComponentLink2Description: Datasheet Link; ComponentLink2URL: https://www.we-online.com/redexpert/spec/885012206114?ad; Mount: Surface Mount; Operating Temperature Max: 125°C; Operating Temperature Min: -55°C; Packaging: Tape and Reel; Length: 1.6mm; Width: 0.8mm; Height: 0.8mm; Capacitance: 10nF; Ceramic Type: X7R
footprint WCAP-CSGP_0603_L1.6W0.8H0.8_Reflow
footprint WCAP-CSGP_0603_L1.6W0.8H0.8_Wave
simulation model 0603_885012206114_10nF
pins: 1, 2

## 885012206114R
designator C?, comment 10nF  (value not drawn)
WCAP-CSGP Multilayer Ceramic Chip Capacitor, General Purpose, size 0603, X7R, 10nF, 100VDC; Manufacturer Part Number: 885012206114R; Manufacturer: Wurth Elektronik; Case/Size Code: 0603; Capacitance Tolerance: +/-10%; Dissipation Factor: 2.5%; Insulation Resistance: 10GΩ; Rated Voltage (DC): 100V; Technical Reference: X7R0603103K100DFCT20000; Category: Multilayer Ceramic Chip Capacitors; Match Code: WCAP-CSGP; ComponentLink1Description: Website Link; ComponentLink1URL: https://www.we-online.com/redexpert/article/885012206114R?ad; ComponentLink2Description: Datasheet Link; ComponentLink2URL: https://www.we-online.com/redexpert/spec/885012206114R?ad; Mount: Surface Mount; Operating Temperature Max: 125°C; Operating Temperature Min: -55°C; Packaging: Tape and Reel; Length: 1.6mm; Width: 0.8mm; Height: 0.8mm; Capacitance: 10nF; Ceramic Type: X7R
footprint WCAP-CSGP_0603_L1.6W0.8H0.8_Reflow
footprint WCAP-CSGP_0603_L1.6W0.8H0.8_Wave
simulation model 0603_885012206114R_10nF
pins: 1, 2

## 885012206118
designator C?, comment 47nF  (value not drawn)
WCAP-CSGP Multilayer Ceramic Chip Capacitor, General Purpose, size 0603, X7R, 47nF, 100VDC; Manufacturer Part Number: 885012206118; Manufacturer: Wurth Elektronik; Case/Size Code: 0603; Capacitance Tolerance: +/-10%; Dissipation Factor: 2.5%; Insulation Resistance: 2.1GΩ; Rated Voltage (DC): 100V; Technical Reference: X7R0603473K100DFCT10000; Category: Multilayer Ceramic Chip Capacitors; Match Code: WCAP-CSGP; ComponentLink1Description: Website Link; ComponentLink1URL: https://www.we-online.com/redexpert/article/885012206118?ad; ComponentLink2Description: Datasheet Link; ComponentLink2URL: https://www.we-online.com/redexpert/spec/885012206118?ad; Mount: Surface Mount; Operating Temperature Max: 125°C; Operating Temperature Min: -55°C; Packaging: Tape and Reel; Length: 1.6mm; Width: 0.8mm; Height: 0.8mm; Capacitance: 47nF; Ceramic Type: X7R
footprint WCAP-CSGP_0603_L1.6W0.8H0.8_Reflow
footprint WCAP-CSGP_0603_L1.6W0.8H0.8_Wave
simulation model 0603_885012206118_47nF
pins: 1, 2

## 885012206120
designator C?, comment 100nF  (value not drawn)
WCAP-CSGP Multilayer Ceramic Chip Capacitor, General Purpose, size 0603, X7R, 100nF, 100VDC; Manufacturer Part Number: 885012206120; Manufacturer: Wurth Elektronik; Case/Size Code: 0603; Capacitance Tolerance: +/-10%; Dissipation Factor: 5%; Insulation Resistance: 1GΩ; Rated Voltage (DC): 100V; Technical Reference: X7R0603104K100DFCT10000; Category: Multilayer Ceramic Chip Capacitors; Match Code: WCAP-CSGP; ComponentLink1Description: Website Link; ComponentLink1URL: https://www.we-online.com/redexpert/article/885012206120?ad; ComponentLink2Description: Datasheet Link; ComponentLink2URL: https://www.we-online.com/redexpert/spec/885012206120?ad; Mount: Surface Mount; Operating Temperature Max: 125°C; Operating Temperature Min: -55°C; Packaging: Tape and Reel; Length: 1.6mm; Width: 0.8mm; Height: 0.8mm; Capacitance: 100nF; Ceramic Type: X7R
footprint WCAP-CSGP_0603_L1.6W0.8H0.8_Reflow
footprint WCAP-CSGP_0603_L1.6W0.8H0.8_Wave
simulation model 0603_885012206120_100nF
pins: 1, 2

## 885012206121
designator C?, comment 330nF  (value not drawn)
WCAP-CSGP Multilayer Ceramic Chip Capacitor, General Purpose, size 0603, X7R, 330nF, 50VDC; Manufacturer Part Number: 885012206121; Manufacturer: Wurth Elektronik; Case/Size Code: 0603; Capacitance Tolerance: +/-10%; Dissipation Factor: 10%; Insulation Resistance: 1.5GΩ; Rated Voltage (DC): 50V; Technical Reference: X7R0603334K050DFCT10000; Category: Multilayer Ceramic Chip Capacitors; Match Code: WCAP-CSGP; ComponentLink1Description: Website Link; ComponentLink1URL: https://www.we-online.com/redexpert/article/885012206121?ad; ComponentLink2Description: Datasheet Link; ComponentLink2URL: https://www.we-online.com/redexpert/spec/885012206121?ad; Mount: Surface Mount; Operating Temperature Max: 125°C; Operating Temperature Min: -55°C; Packaging: Tape and Reel; Length: 1.6mm; Width: 0.8mm; Height: 0.8mm; Capacitance: 330nF; Ceramic Type: X7R
footprint WCAP-CSGP_0603_L1.6W0.8H0.8_Reflow
footprint WCAP-CSGP_0603_L1.6W0.8H0.8_Wave
simulation model 0603_885012206121_330nF
pins: 1, 2

## 885012206125
designator C?, comment 220nF  (value not drawn)
WCAP-CSGP Multilayer Ceramic Chip Capacitor, General Purpose, size 0603, X7R, 220nF, 50VDC; Manufacturer Part Number: 885012206125; Manufacturer: Wurth Elektronik; Case/Size Code: 0603; Capacitance Tolerance: +/-5%; Dissipation Factor: 10%; Insulation Resistance: 2.3GΩ; Rated Voltage (DC): 50V; Technical Reference: X7R0603224J050DFCT10000; Category: Multilayer Ceramic Chip Capacitors; Match Code: WCAP-CSGP; ComponentLink1Description: Website Link; ComponentLink1URL: https://www.we-online.com/redexpert/article/885012206125?ad; ComponentLink2Description: Datasheet Link; ComponentLink2URL: https://www.we-online.com/redexpert/spec/885012206125?ad; Mount: Surface Mount; Operating Temperature Max: 125°C; Operating Temperature Min: -55°C; Packaging: Tape and Reel; Length: 1.6mm; Width: 0.8mm; Height: 0.8mm; Capacitance: 220nF; Ceramic Type: X7R
footprint WCAP-CSGP_0603_L1.6W0.8H0.8_Reflow
footprint WCAP-CSGP_0603_L1.6W0.8H0.8_Wave
simulation model 0603_885012206125_220nF
pins: 1, 2

## 885012206126
designator C?, comment 1µF  (value not drawn)
WCAP-CSGP Multilayer Ceramic Chip Capacitor, General Purpose, size 0603, X7R, 1µF, 50VDC; Manufacturer Part Number: 885012206126; Manufacturer: Wurth Elektronik; Case/Size Code: 0603; Capacitance Tolerance: +/-10%; Dissipation Factor: 10%; Insulation Resistance: 0.5GΩ; Rated Voltage (DC): 50V; Technical Reference: X7R0603105K050DFCT10000; Category: Multilayer Ceramic Chip Capacitors; Match Code: WCAP-CSGP; ComponentLink1Description: Website Link; ComponentLink1URL: https://www.we-online.com/redexpert/article/885012206126?ad; ComponentLink2Description: Datasheet Link; ComponentLink2URL: https://www.we-online.com/redexpert/spec/885012206126?ad; Mount: Surface Mount; Operating Temperature Max: 125°C; Operating Temperature Min: -55°C; Packaging: Tape and Reel; Length: 1.6mm; Width: 0.8mm; Height: 0.8mm; Capacitance: 1µF; Ceramic Type: X7R
footprint WCAP-CSGP_0603_L1.6W0.8H0.8_Reflow
footprint WCAP-CSGP_0603_L1.6W0.8H0.8_Wave
simulation model 0603_885012206126_1uF
pins: 1, 2

## 885012207001
designator C?, comment 2.2µF  (value not drawn)
WCAP-CSGP Multilayer Ceramic Chip Capacitor, General Purpose, size 0805, X7R, 2.2µF, 6.3VDC; Manufacturer Part Number: 885012207001; Manufacturer: Wurth Elektronik; Case/Size Code: 0805; Capacitance Tolerance: +/-10%; Dissipation Factor: 10%; Insulation Resistance: 0.05GΩ; Rated Voltage (DC): 6.3V; Technical Reference: X7R0805225K6R3DFCT10000; Category: Multilayer Ceramic Chip Capacitors; Match Code: WCAP-CSGP; ComponentLink1Description: Website Link; ComponentLink1URL: https://www.we-online.com/redexpert/article/885012207001?ad; ComponentLink2Description: Datasheet Link; ComponentLink2URL: https://www.we-online.com/redexpert/spec/885012207001?ad; Mount: Surface Mount; Operating Temperature Max: 125°C; Operating Temperature Min: -55°C; Packaging: Tape and Reel; Length: 2mm; Width: 1.25mm; Height: 1.25mm; Capacitance: 2.2µF; Ceramic Type: X7R
footprint WCAP-CSGP_0805_L2W1.25H1.25
simulation model 0805_885012207001_2.2uF
pins: 1, 2

## 885012207002
designator C?, comment 4.7µF  (value not drawn)
WCAP-CSGP Multilayer Ceramic Chip Capacitor, General Purpose, size 0805, X7R, 4.7µF, 6.3VDC; Manufacturer Part Number: 885012207002; Manufacturer: Wurth Elektronik; Case/Size Code: 0805; Capacitance Tolerance: +/-10%; Dissipation Factor: 10%; Insulation Resistance: 0.02GΩ; Rated Voltage (DC): 6.3V; Technical Reference: X7R0805475K6R3DFCT10000; Category: Multilayer Ceramic Chip Capacitors; Match Code: WCAP-CSGP; ComponentLink1Description: Website Link; ComponentLink1URL: https://www.we-online.com/redexpert/article/885012207002?ad; ComponentLink2Description: Datasheet Link; ComponentLink2URL: https://www.we-online.com/redexpert/spec/885012207002?ad; Mount: Surface Mount; Operating Temperature Max: 125°C; Operating Temperature Min: -55°C; Packaging: Tape and Reel; Length: 2mm; Width: 1.25mm; Height: 1.25mm; Capacitance: 4.7µF; Ceramic Type: X7R
footprint WCAP-CSGP_0805_L2W1.25H1.25
simulation model 0805_885012207002_4.7uF
pins: 1, 2

## 885012207003
designator C?, comment 10µF  (value not drawn)
WCAP-CSGP Multilayer Ceramic Chip Capacitor, General Purpose, size 0805, X7R, 10µF, 6.3VDC; Manufacturer Part Number: 885012207003; Manufacturer: Wurth Elektronik; Case/Size Code: 0805; Capacitance Tolerance: +/-10%; Dissipation Factor: 10%; Insulation Resistance: 0.01GΩ; Rated Voltage (DC): 6.3V; Technical Reference: X7R0805106K6R3DFCT10000; Category: Multilayer Ceramic Chip Capacitors; Match Code: WCAP-CSGP; ComponentLink1Description: Website Link; ComponentLink1URL: https://www.we-online.com/redexpert/article/885012207003?ad; ComponentLink2Description: Datasheet Link; ComponentLink2URL: https://www.we-online.com/redexpert/spec/885012207003?ad; Mount: Surface Mount; Operating Temperature Max: 125°C; Operating Temperature Min: -55°C; Packaging: Tape and Reel; Length: 2mm; Width: 1.25mm; Height: 1.25mm; Capacitance: 10µF; Ceramic Type: X7R
footprint WCAP-CSGP_0805_L2W1.25H1.25
simulation model 0805_885012207003_10uF
pins: 1, 2

## 885012207004
designator C?, comment 100pF  (value not drawn)
WCAP-CSGP Multilayer Ceramic Chip Capacitor, General Purpose, size 0805, X7R, 100pF, 10VDC; Manufacturer Part Number: 885012207004; Manufacturer: Wurth Elektronik; Case/Size Code: 0805; Capacitance Tolerance: +/-10%; Dissipation Factor: 5%; Insulation Resistance: 10GΩ; Rated Voltage (DC): 10V; Technical Reference: X7R0805101K010DFCT10000; Category: Multilayer Ceramic Chip Capacitors; Match Code: WCAP-CSGP; ComponentLink1Description: Website Link; ComponentLink1URL: https://www.we-online.com/redexpert/article/885012207004?ad; ComponentLink2Description: Datasheet Link; ComponentLink2URL: https://www.we-online.com/redexpert/spec/885012207004?ad; Mount: Surface Mount; Operating Temperature Max: 125°C; Operating Temperature Min: -55°C; Packaging: Tape and Reel; Length: 2mm; Width: 1.25mm; Height: 0.8mm; Capacitance: 100pF; Ceramic Type: X7R
footprint WCAP-CSGP_0805_L2W1.25H0.8_Reflow
footprint WCAP-CSGP_0805_L2W1.25H0.8_Wave
simulation model 0805_885012207004_100pF
pins: 1, 2

## 885012207005
designator C?, comment 220pF  (value not drawn)
WCAP-CSGP Multilayer Ceramic Chip Capacitor, General Purpose, size 0805, X7R, 220pF, 10VDC; Manufacturer Part Number: 885012207005; Manufacturer: Wurth Elektronik; Case/Size Code: 0805; Capacitance Tolerance: +/-10%; Dissipation Factor: 5%; Insulation Resistance: 10GΩ; Rated Voltage (DC): 10V; Technical Reference: X7R0805221K010DFCT10000; Category: Multilayer Ceramic Chip Capacitors; Match Code: WCAP-CSGP; ComponentLink1Description: Website Link; ComponentLink1URL: https://www.we-online.com/redexpert/article/885012207005?ad; ComponentLink2Description: Datasheet Link; ComponentLink2URL: https://www.we-online.com/redexpert/spec/885012207005?ad; Mount: Surface Mount; Operating Temperature Max: 125°C; Operating Temperature Min: -55°C; Packaging: Tape and Reel; Length: 2mm; Width: 1.25mm; Height: 0.8mm; Capacitance: 220pF; Ceramic Type: X7R
footprint WCAP-CSGP_0805_L2W1.25H0.8_Reflow
footprint WCAP-CSGP_0805_L2W1.25H0.8_Wave
simulation model 0805_885012207005_220pF
pins: 1, 2

## 885012207006
designator C?, comment 470pF  (value not drawn)
WCAP-CSGP Multilayer Ceramic Chip Capacitor, General Purpose, size 0805, X7R, 470pF, 10VDC; Manufacturer Part Number: 885012207006; Manufacturer: Wurth Elektronik; Case/Size Code: 0805; Capacitance Tolerance: +/-10%; Dissipation Factor: 5%; Insulation Resistance: 10GΩ; Rated Voltage (DC): 10V; Technical Reference: X7R0805471K010DFCT10000; Category: Multilayer Ceramic Chip Capacitors; Match Code: WCAP-CSGP; ComponentLink1Description: Website Link; ComponentLink1URL: https://www.we-online.com/redexpert/article/885012207006?ad; ComponentLink2Description: Datasheet Link; ComponentLink2URL: https://www.we-online.com/redexpert/spec/885012207006?ad; Mount: Surface Mount; Operating Temperature Max: 125°C; Operating Temperature Min: -55°C; Packaging: Tape and Reel; Length: 2mm; Width: 1.25mm; Height: 0.8mm; Capacitance: 470pF; Ceramic Type: X7R
footprint WCAP-CSGP_0805_L2W1.25H0.8_Reflow
footprint WCAP-CSGP_0805_L2W1.25H0.8_Wave
simulation model 0805_885012207006_470pF
pins: 1, 2

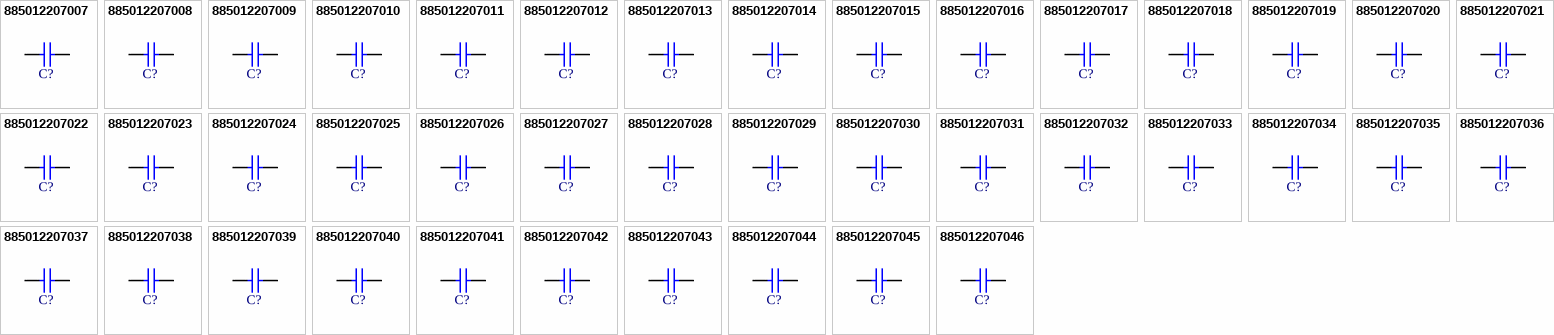
[diagram p17: symbols 885012207007 to 885012207046]